# Altium schematic symbol library LM61480Q3RPHRQ1.SchLib: 1 symbol
Pins are listed as number, name and electrical type; pins without a type are passive.

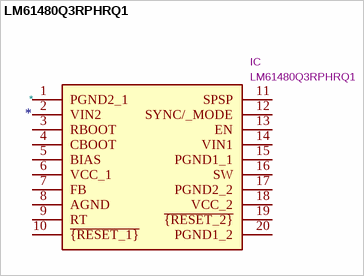
[diagram p0: symbol LM61480Q3RPHRQ1]

## LM61480Q3RPHRQ1
designator *  value LM61480Q3RPHRQ1  Reference: IC
Manufacturer_Name: Texas Instruments; ki_description: Switching Voltage Regulators 8-A automotive buck converter optimized for power density and low EMI; Footprint: LM62460QRPHRQ1; Datasheet: https://www.ti.com/product/LM62460-Q1?HQS=TI-null-null-octopart-df-pf-null-wwe; Height: 1; Manufacturer_Part_Number: LM61480Q3RPHRQ1; Mouser Part Number: 595-LM61480Q3RPHRQ1; Mouser Price/Stock: https://www.mouser.co.uk/ProductDetail/Texas-Instruments/LM61480Q3RPHRQ1?qs=Wj%2FVkw3K%252BMDMY%2FXxTFEmEg%3D%3D; Arrow Part Number: LM61480Q3RPHRQ1; Arrow Price/Stock: https://www.arrow.com/en/products/lm61480q3rphrq1/texas-instruments?utm_currency=USD&region=nac
pins: 1 PGND2_1, 2 VIN2, 3 RBOOT, 4 CBOOT, 5 BIAS, 6 VCC_1, 7 FB, 8 AGND, 9 RT, 10 ~{{RESET_1}}, 11 SPSP, 12 SYNC/_MODE, 13 EN, 14 VIN1, 15 PGND1_1, 16 SW, 17 PGND2_2, 18 VCC_2, 19 ~{{RESET_2}}, 20 PGND1_2